# Altium footprint library PcbLib_Others.PcbLib: 31 footprints (part 2 of 2)
Each footprint in its own frame and in the unit in brackets; x right, y up, seen from the top. Pads: shape width x height; smd on the part's side, far side on the other; paste and mask are expansions set on the pad; w line width, h text height; cw(c..) or ccw(c..) is an arc to the next point about the centre after c.
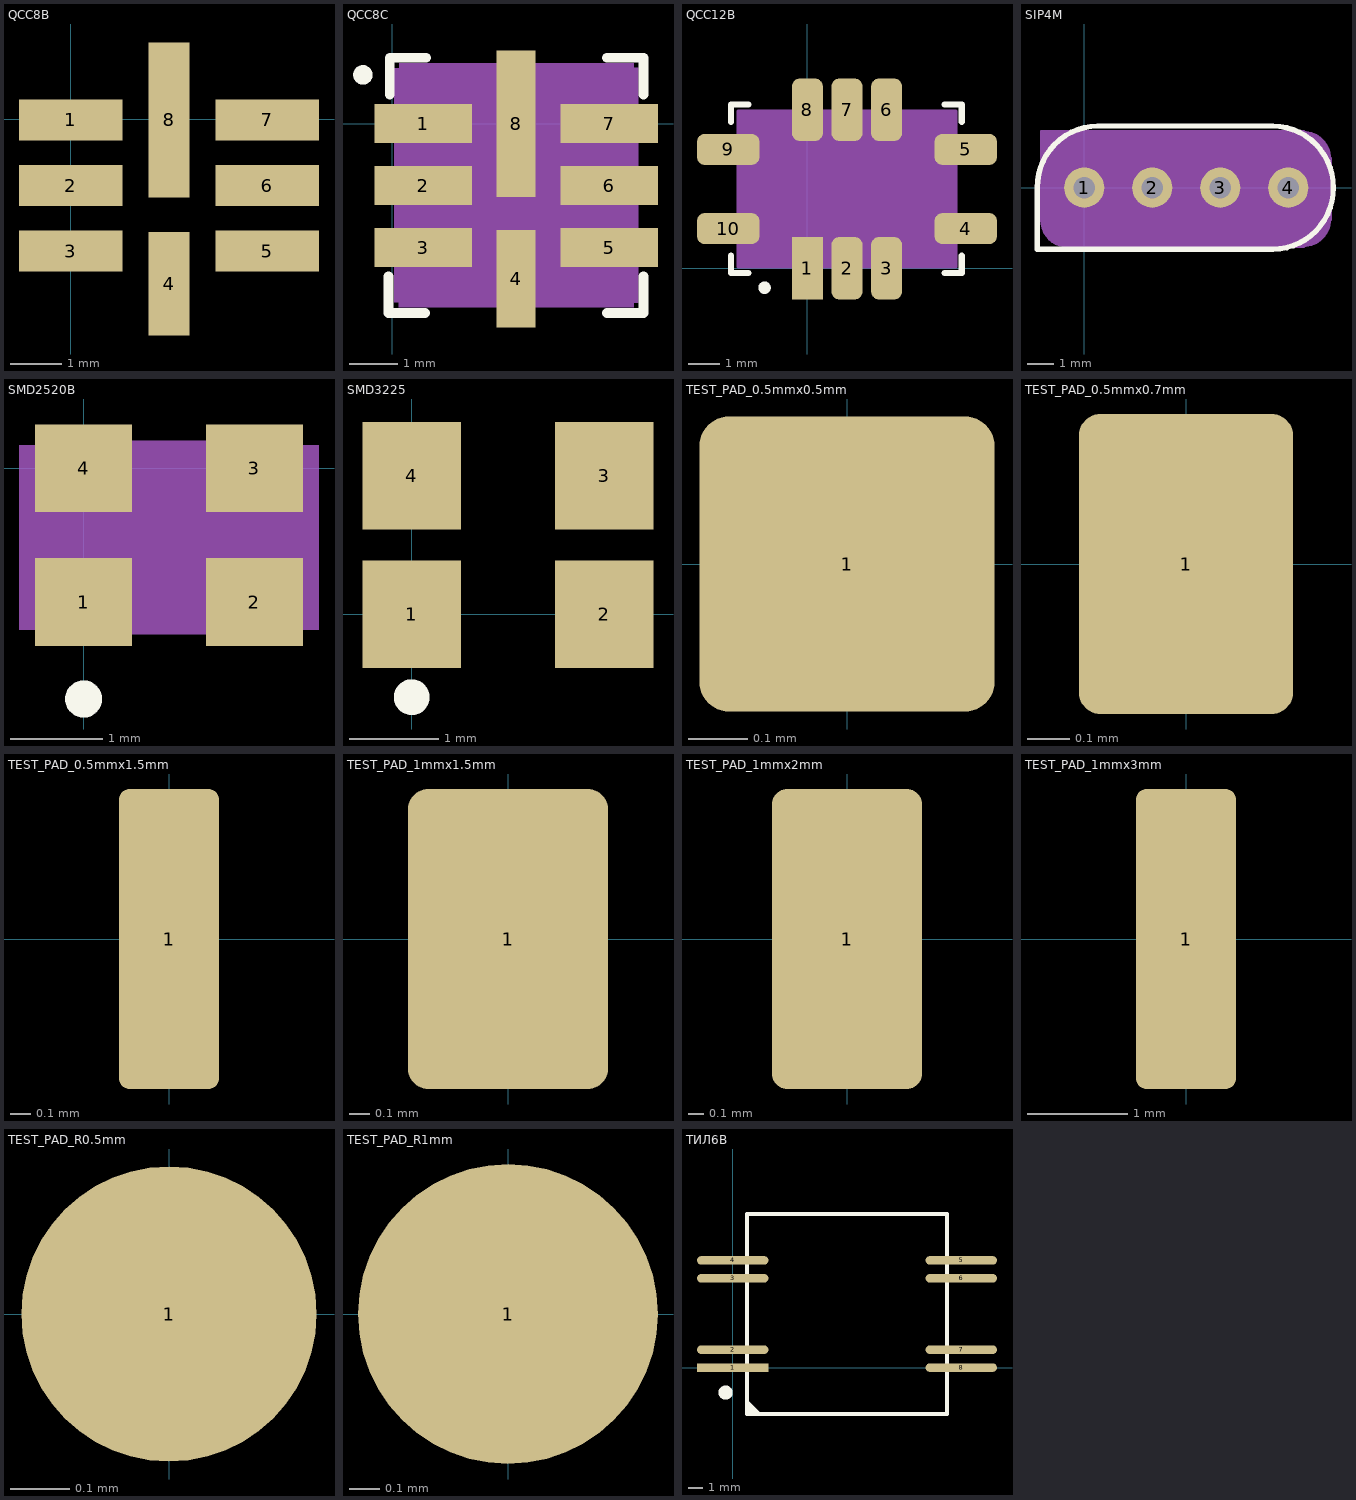
[diagram p1: the footprints below, top view; thin cyan lines are the x and y axes]

## QCC8B [mm] "3.8mm x 3.8mm"
pads (8):
  rect 2x0.8 smd paste-0.05 mask+0.075: 1(-0.005,-0.01) 2(-0.005,-1.28) 3(-0.005,-2.55) 5(3.805,-2.55) 6(3.805,-1.28) 7(3.805,-0.01)
  rect 0.8x2 smd paste-0.05 mask+0.075: 4(1.9,-3.185)
  rect 0.8x3 smd paste-0.05 mask+0.075: 8(1.9,-0.01)
3D body "QCC8B.STEP": height 1.52, standoff -0.09, extent 0.01,-3.185 3.81,0.615

## QCC8C [mm] "5mm x 5mm"
pads (8):
  rect 2x0.8 smd paste-0.05 mask+0.075: 1(0.635,0) 2(0.635,-1.27) 3(0.635,-2.54) 5(4.445,-2.54) 6(4.445,-1.27) 7(4.445,0)
  rect 0.8x2 smd paste-0.05 mask+0.075: 4(2.54,-3.175)
  rect 0.8x3 smd paste-0.05 mask+0.075: 8(2.54,0)
Top Overlay:
  circle w0.2: c-0.6,1 r0.1
  lines w0.2: -0.075,-3.125 -0.075,-3.875 0.675,-3.875 ; -0.05,0.6 -0.05,1.35 0.7,1.35 ; 4.4,-3.875 5.15,-3.875 5.15,-3.125 ; 4.4,1.35 5.15,1.35 5.15,0.6
Mechanical 3:
  drawing of 236 lines, arcs and shapes, not listed
  text ".Designator" at 1.175,-1.825 h2
Mechanical 4:
  drawing of 1 lines, arcs and shapes, not listed
3D body "QCC8.STEP": height 1.81, standoff -0.01, extent 0.1,-3.7 5.1,1.3

## QCC12B [mm]
pads (10):
  rect 1x2 smd: 1(0,0)
  rrect50% 1x2 smd: 2(1.27,0) 3(2.54,0) 6(2.54,5.08) 7(1.27,5.08) 8(0,5.08)
  rrect50% 2x1 smd: 4(5.08,1.27) 5(5.08,3.81) 9(-2.54,3.81) 10(-2.54,1.27)
Top Overlay:
  circle w0.2: c-1.375,-0.625 r0.1
  lines w0.2: -2.45,0.4 -2.45,-0.15 -1.9,-0.15 ; -2.45,4.7 -2.45,5.25 -1.9,5.25 ; 4.4,-0.15 4.95,-0.15 4.95,0.4 ; 4.4,5.25 4.95,5.25 4.95,4.7
Mechanical 3:
  lines w0.1: -2.23,0.04 -2.23,5.04 4.77,5.04 4.77,0.04 -2.23,0.04
Mechanical 4:
  rectangle: -2.23,0.04 4.77,5.04
3D body "QCC12B.STEP": height 1.55, standoff -0.01, extent -2.2,0 4.8,5

## SIP4M [mm]
pads (4):
  round 1.5 hole 0.8: 1(0,0) 2(2.54,0) 3(5.08,0) 4(7.62,0)
Top Overlay:
  lines w0.2: -1.75,-2.3 2.55,-2.3 7.05,-2.3 ccw(c7.025,-0.025) 9.3,0 ccw(c7.025,0.025) 7.05,2.3 0.5,2.3 ccw(c0.525,0.025) -1.75,0 -1.75,-2.3
Top Solder:
  region: -1.8,-2.4 9.4,-2.4 9.4,2.3 -1.8,2.3
Mechanical 3:
  lines w0.1: 8.2,-2.2 -0.6,-2.2 cw(c-0.6,-1.2) -1.6,-1.2 -1.6,2.1 8.2,2.1 ; 9.2,-1.2 9.2,1.1
Mechanical 4:
  region: -1.6,-1.2 -1.6,-1.298 -1.562,-1.492 -1.486,-1.674 -1.377,-1.837 -1.237,-1.977 -1.074,-2.086 -0.892,-2.162 -0.698,-2.2 -0.6,-2.2 8.2,-2.2 8.298,-2.2 8.492,-2.162 8.674,-2.086 8.837,-1.977 8.977,-1.837 9.086,-1.674 9.162,-1.492 9.2,-1.298 9.2,-1.2 9.2,1.1 9.2,1.198 9.162,1.392 9.086,1.574 8.977,1.737 8.837,1.877 8.674,1.986 8.492,2.062 8.298,2.1 8.2,2.1 -1.6,2.1
3D body "SIP4M.STEP": height 3.31, standoff -3.2, extent -1.6,-2.15 9.2,2.15

## SMD2520B [mm]
height 0.6
pads (4):
  rect 1.05x0.95 smd: 1(0,-1.45) 2(1.85,-1.45) 3(1.85,0) 4(0,0)
Top Overlay:
  circle w0.2: c0,-2.5 r0.1
Mechanical 3:
  circle w0.2: c-0.25,-1.35 r0.1
  lines w0.1: -0.475,-1.75 2.325,-1.75 2.325,0.25 -0.475,0.25 -0.475,-1.75
  text ".Designator" at -0.35,-0.65 h1
Mechanical 4:
  region: -0.7,-1.75 2.55,-1.75 2.55,0.25 -0.7,0.25
3D body "ABM10.STEP": height 0.51, standoff 0, extent -0.253,-1.75 2.236,0.256

## SMD3225 [mm]
height 0.6
pads (4):
  rect 1.1x1.2 smd mask+0.05: 1(0,0) 2(2.15,0) 3(2.15,1.55) 4(0,1.55)
Top Overlay:
  circle w0.2: c0,-0.925 r0.1
3D body "User Library-3225-1.step": height 0.61, standoff 0, extent -0.525,-0.475 2.675,2.025

## TEST_PAD_0.5mmx0.5mm [mm]
pads (1):
  rrect20% 0.5x0.5 smd mask+0.05: 1(0,0)

## TEST_PAD_0.5mmx0.7mm [mm]
pads (1):
  rrect20% 0.5x0.7 smd mask+0.05: 1(0,0)

## TEST_PAD_0.5mmx1.5mm [mm]
pads (1):
  rrect20% 0.5x1.5 smd mask+0.05: 1(0,0)

## TEST_PAD_1mmx1.5mm [mm]
pads (1):
  rrect20% 1x1.5 smd mask+0.05: 1(0,0)

## TEST_PAD_1mmx2mm [mm]
pads (1):
  rrect20% 1x2 smd mask+0.05: 1(0,0)

## TEST_PAD_1mmx3mm [mm]
pads (1):
  rrect20% 1x3 smd mask+0.05: 1(0,0)

## TEST_PAD_R0.5mm [mm]
pads (1):
  round 0.5 smd mask+0.05: 1(0,0)

## TEST_PAD_R1mm [mm]
pads (1):
  round 1 smd mask+0.05: 1(0,0)

## ТИЛ6В [mm]
pads (8):
  rect 5x0.6 smd: 1(0,0)
  oval 5x0.6 smd: 2(0,1.25) 3(0,6.25) 4(0,7.5) 5(16,7.5) 6(16,6.25) 7(16,1.25) 8(16,0)
Top Overlay:
  circle w0.5: c-0.5,-1.75 r0.25
  region: 1,-2.25 1,-3.25 2,-3.25
  lines w0.254: 1,-3.25 1,10.75 15,10.75 15,-3.25 1,-3.25
3D body "222.STEP": height 8, standoff 0, extent -1.25,-2.429 16.75,9.929